# EAGLE library part M37632(80PIN) (library MITSUBISHI)
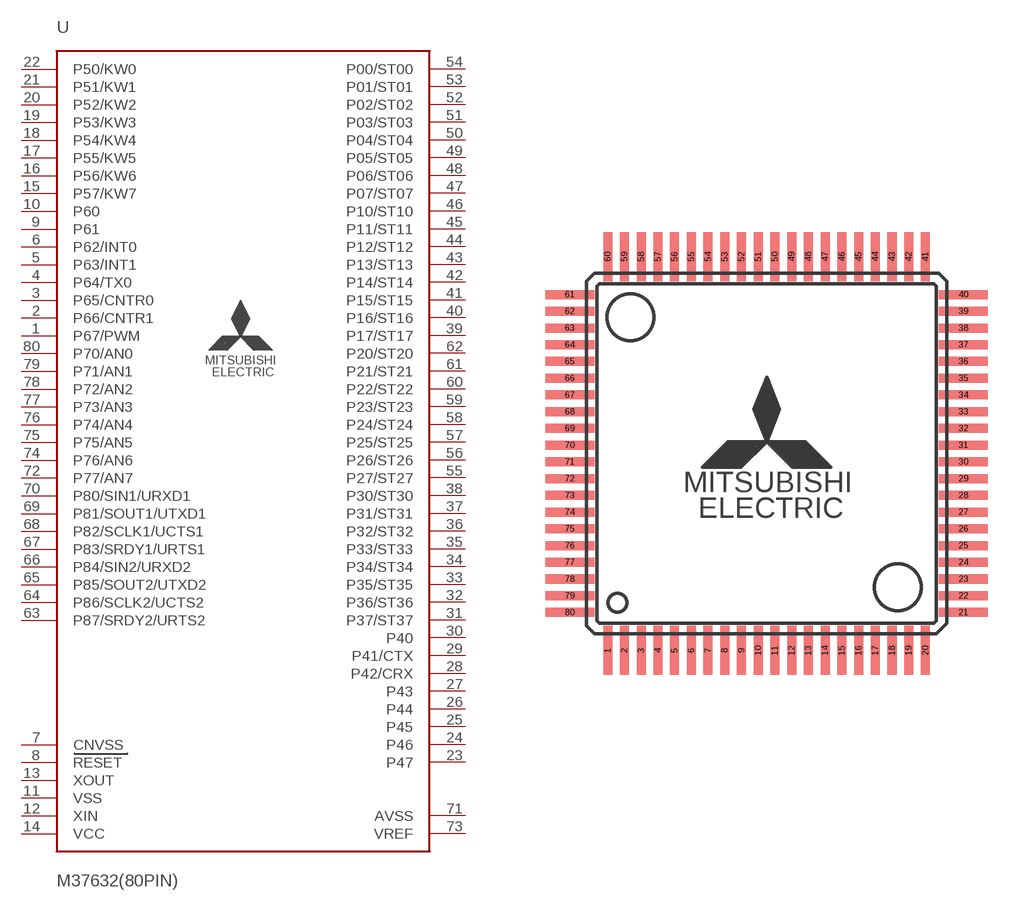
[diagram p28: symbol with the pads of 80P6S-A; footprint 80P6S-A]

Designator prefix -

## M37632(80PIN)  [80P6S-A]
1  P67/PWM
2  P66/CNTR1
3  P65/CNTR0
4  P64/TX0
5  P63/INT1
6  P62/INT0
7  CNVSS  in
8  RESET  in
9  P61
10  P60
11  VSS  pwr
12  XIN  in
13  XOUT  out
14  VCC  pwr
15  P57/KW7
16  P56/KW6
17  P55/KW5
18  P54/KW4
19  P53/KW3
20  P52/KW2
21  P51/KW1
22  P50/KW0
23  P47
24  P46
25  P45
26  P44
27  P43
28  P42/CRX
29  P41/CTX
30  P40
31  P37/ST37
32  P36/ST36
33  P35/ST35
34  P34/ST34
35  P33/ST33
36  P32/ST32
37  P31/ST31
38  P30/ST30
39  P17/ST17
40  P16/ST16
41  P15/ST15
42  P14/ST14
43  P13/ST13
44  P12/ST12
45  P11/ST11
46  P10/ST10
47  P07/ST07
48  P06/ST06
49  P05/ST05
50  P04/ST04
51  P03/ST03
52  P02/ST02
53  P01/ST01
54  P00/ST00
55  P27/ST27
56  P26/ST26
57  P25/ST25
58  P24/ST24
59  P23/ST23
60  P22/ST22
61  P21/ST21
62  P20/ST20
63  P87/SRDY2/URTS2
64  P86/SCLK2/UCTS2
65  P85/SOUT2/UTXD2
66  P84/SIN2/URXD2
67  P83/SRDY1/URTS1
68  P82/SCLK1/UCTS1
69  P81/SOUT1/UTXD1
70  P80/SIN1/URXD1
71  AVSS  in
72  P77/AN7
73  VREF  in
74  P76/AN6
75  P75/AN5
76  P74/AN4
77  P73/AN3
78  P72/AN2
79  P71/AN1
80  P70/AN0

## Footprint 80P6S-A (pad centres in mm)
smd 0.35 x 1.9: 1 -6.175,-7.65; 2 -5.525,-7.65; 3 -4.875,-7.65; 4 -4.225,-7.65; 5 -3.575,-7.65; 6 -2.925,-7.65; 7 -2.275,-7.65; 8 -1.625,-7.65; 9 -0.975,-7.65; 10 -0.325,-7.65; 11 0.325,-7.65; 12 0.975,-7.65; 13 1.625,-7.65; 14 2.275,-7.65; 15 2.925,-7.65; 16 3.575,-7.65; 17 4.225,-7.65; 18 4.875,-7.65; 19 5.525,-7.65; 20 6.175,-7.65; 41 6.175,7.65; 42 5.525,7.65; 43 4.875,7.65; 44 4.225,7.65; 45 3.575,7.65; 46 2.925,7.65; 47 2.275,7.65; 48 1.625,7.65; 49 0.975,7.65; 50 0.325,7.65; 51 -0.325,7.65; 52 -0.975,7.65; 53 -1.625,7.65; 54 -2.275,7.65; 55 -2.925,7.65; 56 -3.575,7.65; 57 -4.225,7.65; 58 -4.875,7.65; 59 -5.525,7.65; 60 -6.175,7.65
smd 1.9 x 0.35: 21 7.65,-6.175; 22 7.65,-5.525; 23 7.65,-4.875; 24 7.65,-4.225; 25 7.65,-3.575; 26 7.65,-2.925; 27 7.65,-2.275; 28 7.65,-1.625; 29 7.65,-0.975; 30 7.65,-0.325; 31 7.65,0.325; 32 7.65,0.975; 33 7.65,1.625; 34 7.65,2.275; 35 7.65,2.925; 36 7.65,3.575; 37 7.65,4.225; 38 7.65,4.875; 39 7.65,5.525; 40 7.65,6.175; 61 -7.65,6.175; 62 -7.65,5.525; 63 -7.65,4.875; 64 -7.65,4.225; 65 -7.65,3.575; 66 -7.65,2.925; 67 -7.65,2.275; 68 -7.65,1.625; 69 -7.65,0.975; 70 -7.65,0.325; 71 -7.65,-0.325; 72 -7.65,-0.975; 73 -7.65,-1.625; 74 -7.65,-2.275; 75 -7.65,-2.925; 76 -7.65,-3.575; 77 -7.65,-4.225; 78 -7.65,-4.875; 79 -7.65,-5.525; 80 -7.65,-6.175